# EAGLE library part LT4363?-2 (library ic-LT)
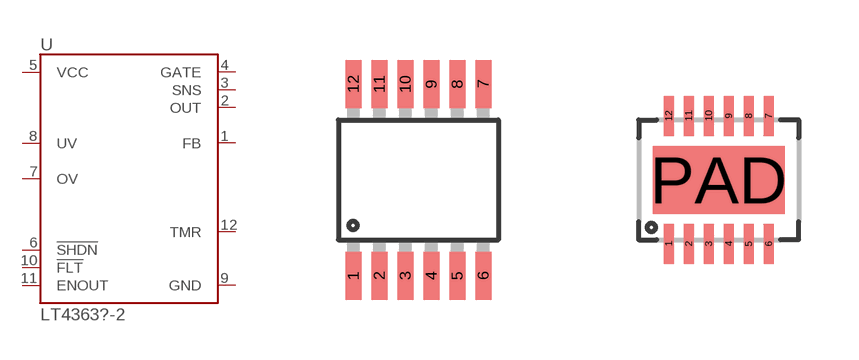
[diagram p2: symbol with the pads of MSOP12; footprints MSOP12, DFN12]

Designator prefix U

## LT4363MS-2  [MSOP12]
1  FB
2  OUT
3  SNS
4  GATE
5  VCC
6  !SHDN
7  OV
8  UV
9  GND
10  !FLT
11  ENOUT
12  TMR

## LT4363DE-2  [DFN12]
1  FB
2  OUT
3  SNS
4  GATE
5  VCC
6  !SHDN
7  OV
8  UV
9  GND
10  !FLT
11  ENOUT
12  TMR
PAD  GND

## Footprint MSOP12 (pad centres in mm)
smd 0.4 x 1.2: 1 -1.625,-2.4; 2 -0.975,-2.4; 3 -0.325,-2.4; 4 0.325,-2.4; 5 0.975,-2.4; 6 1.625,-2.4; 7 1.625,2.4; 8 0.975,2.4; 9 0.325,2.4; 10 -0.325,2.4; 11 -0.975,2.4; 12 -1.625,2.4

## Footprint DFN12 (pad centres in mm)
smd 0.25 x 1: 1 -1.25,-1.6; 2 -0.75,-1.6; 3 -0.25,-1.6; 4 0.25,-1.6; 5 0.75,-1.6; 6 1.25,-1.6; 7 1.25,1.6; 8 0.75,1.6; 9 0.25,1.6; 10 -0.25,1.6; 11 -0.75,1.6; 12 -1.25,1.6
smd 3.3 x 1.7: PAD 0,0